# Altium footprint library connector.PcbLib: 180 footprints (part 12 of 12)
Each footprint in its own frame and in the unit in brackets; x right, y up, seen from the top. Pads: shape width x height; smd on the part's side, far side on the other; paste and mask are expansions set on the pad; w line width, h text height; cw(c..) or ccw(c..) is an arc to the next point about the centre after c.
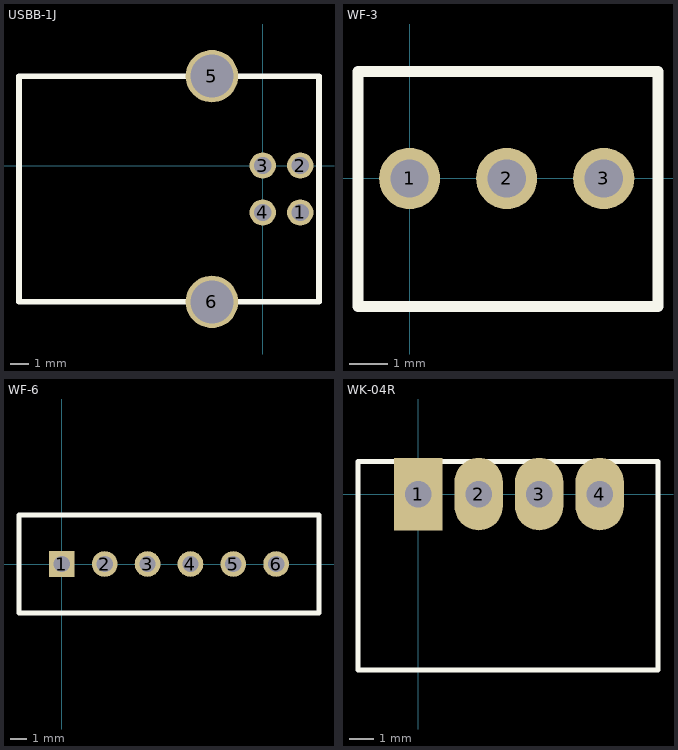
[diagram p11: the footprints below, top view; thin cyan lines are the x and y axes]

## USBB-1J [mm]
pads (6):
  round 1.4 hole 0.92: 1(2,-2.5) 2(2,0) 3(0,0) 4(0,-2.5)
  round 2.8 hole 2.3: 5(-2.71,4.77) 6(-2.71,-7.27)
Top Overlay:
  lines w0.3: -13,-7.27 3,-7.27 3,4.77 -13,4.77 -13,-7.27

## WF-3 [mm]
pads (3):
  round 1.6 hole 1 unplated: 1(0,0) 2(2.54,0) 3(5.08,0)
Top Overlay:
  lines w0.3: -1.35,-3.35 6.5,-3.35 6.5,2.8 -1.35,2.8 -1.35,-3.35
3D body "User Library-WF-3-1.STEP": height 11.42, standoff -2.98, extent -1.175,-3.175 6.325,2.625

## WF-6 [mil]
pads (6):
  rect 60x60 hole 38: 1(0,0)
  round 60 hole 38: 2(100,0) 3(200,0) 4(300,0) 5(400,0) 6(500,0)
Top Overlay:
  lines w11.81: -100,-114.17 -100,114.17 600,114.17 600,-114.17 -100,-114.17

## WK-04R [mm]
pads (4):
  rect 2x3 hole 1.1: 1(0,0)
  oval 2x3 hole 1.1: 2(2.5,0) 3(5,0) 4(7.5,0)
Top Overlay:
  lines w0.2: -2.489,-7.275 9.911,-7.275 9.911,1.35 -2.489,1.35 -2.489,-7.275
3D body "User Library-DS1069-4 MR TypeB.step": height 5.85, standoff -3.3, extent -2.4,-7.34 10,0.3